# EAGLE library part MICRO-SDCARD (library pixel)
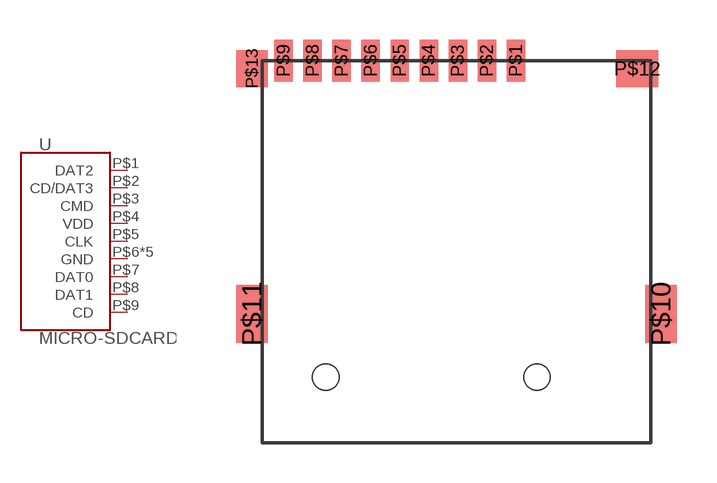
[diagram p36: symbol with the pads of MICRO-SDCARD; footprint MICRO-SDCARD]

Designator prefix -

## MICRO-SDCARD  [MICRO-SDCARD]
P$1  DAT2
P$2  CD/DAT3
P$3  CMD
P$4  VDD  pwr
P$5  CLK
P$6  GND  pwr
P$7  DAT0
P$8  DAT1
P$9  CD
P$10  GND  pwr
P$11  GND  pwr
P$12  GND  pwr
P$13  GND  pwr

## Footprint MICRO-SDCARD (pad centres in mm)
smd 0.7 x 1.6: P$1 2.25,0; P$2 1.15,0; P$3 0.05,0; P$4 -1.05,0; P$5 -2.15,0; P$6 -3.25,0; P$7 -4.35,0; P$8 -5.45,0; P$9 -6.55,0
smd 1.2 x 2.2: P$10 7.75,-9.6; P$11 -7.75,-9.6
smd 1.6 x 1.4: P$12 6.85,-0.3
smd 1.2 x 1.4: P$13 -7.75,-0.3
hole 1 at -4.95,-12
hole 1 at 3.05,-12